# Altium footprint library Devre_2_Proje.PcbLib: 8 footprints
Each footprint in its own frame and in the unit in brackets; x right, y up, seen from the top. Pads: shape width x height; smd on the part's side, far side on the other; paste and mask are expansions set on the pad; w line width, h text height; cw(c..) or ccw(c..) is an arc to the next point about the centre after c.
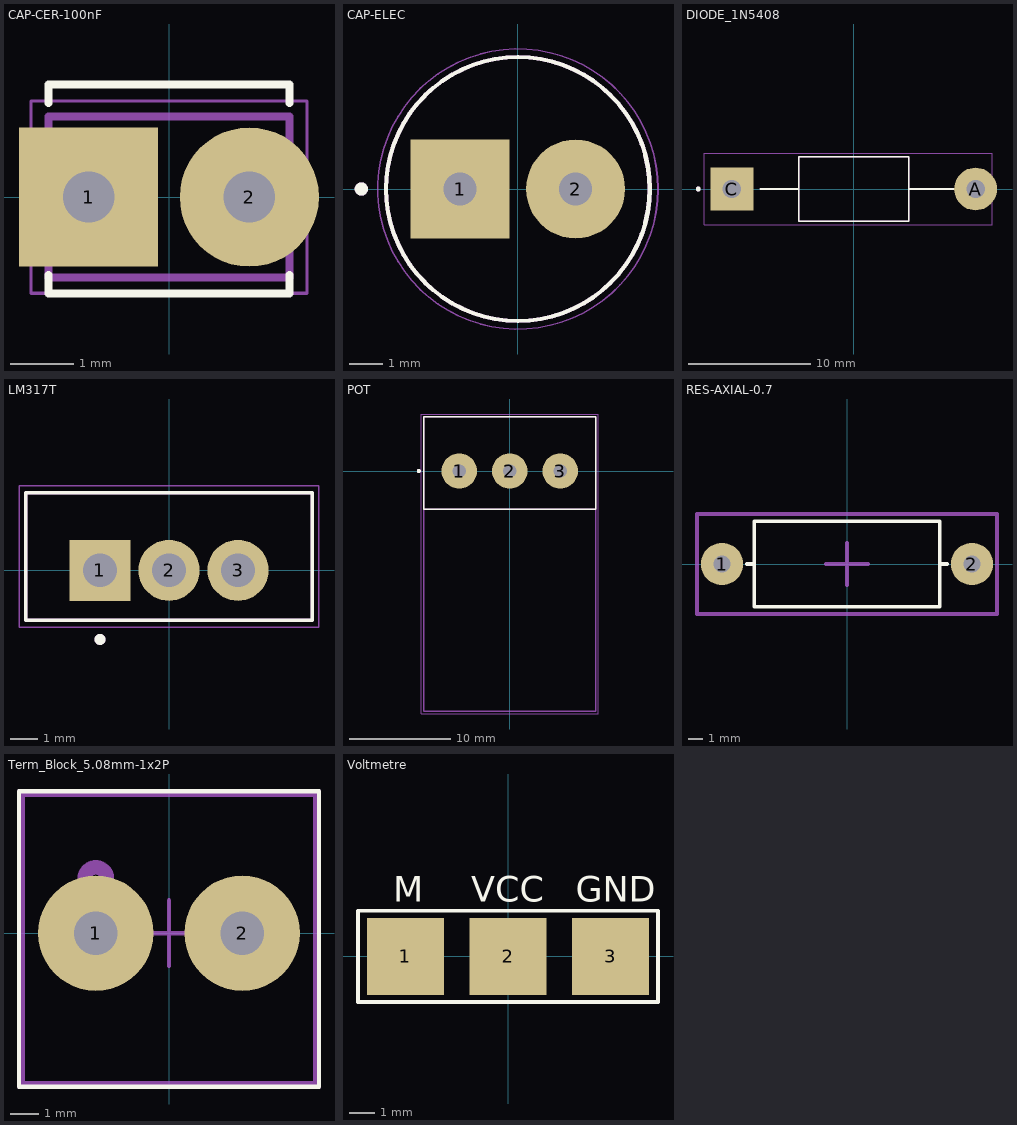
[diagram p0: the footprints below, top view; thin cyan lines are the x and y axes]

## CAP-CER-100nF [mm]
height 4.66
pads (2):
  rect 2.2x2.2 / inner round 1.318 / far side rect 1.318x1.318 hole 0.81: 1(-1.27,0)
  round 2.2 hole 0.81: 2(1.27,0)
Top Overlay:
  lines w0.127: -1.905,-1.233 -1.905,-1.524 1.905,-1.524 1.905,-1.233 ; -1.905,1.487 -1.905,1.778 1.905,1.778 1.905,1.487
Top Designator:
  lines w0.127: -1.905,-1.27 -1.905,1.27 1.905,1.27 1.905,-1.27 -1.905,-1.27
Top Component Center:
  lines w0.05: -2.179,-1.52 -2.179,1.52 2.179,1.52 2.179,-1.52 -2.179,-1.52
3D body "step_temp.STEP": height 4.66, standoff -7, extent -1.905,-1.27 1.905,1.27

## CAP-ELEC [mm]
pads (2):
  rect 3x3 / inner round 3 / far side rect 3x3 hole 1: 1(-1.75,0)
  round 3 hole 1: 2(1.75,0)
Top Overlay:
  circle w0.127: c0,0 r4
  circle w0.2: c-4.75,0 r0.1
Top Designator:
  circle w0.127: c0,0 r4
  circle w0.2: c-4.75,0 r0.1
Top Component Center:
  circle w0.05: c0,0 r4.25
3D body "Aluminum_electrolytic_capacitor_radial_D8_H11.5_PinD0.6_Pitch3.5_nominal_black.step": height 11.5, standoff -3, extent -4,-3.992 3.991,3.992

## DIODE_1N5408 [mm]
height 5.6
pads (2):
  round 3.5 hole 1.5 mask+0.102: A(9.95,0)
  rect 3.5x3.5 / inner round 3.5 / far side rect 3.5x3.5 hole 1.5 mask+0.102: C(-9.95,0)
Top Overlay:
  circle w0.2: c-12.7,0 r0.1
  lines w0.127: 8.47,0 4.5,0 ; 4.5,0 4.5,-2.65 -4.5,-2.65 -4.5,0 -4.5,2.65 4.5,2.65 4.5,0
  lines w0.15: -7.62,0 -4.5,0
Top Designator:
  circle w0.2: c-12.7,0 r0.1
  lines w0.127: -7.62,0 -4.5,0 ; 9.95,0 4.5,0 ; -4.5,0 -4.5,2.65 4.5,2.65 4.5,0 ; -4.5,0 -4.5,-2.65 4.5,-2.65 4.5,0
Top Component Center:
  lines w0.05: -12.192,-2.9 -12.192,2.9 11.325,2.9 11.325,-2.9 -12.192,-2.9
3D body "Power Diode 1N5400.step": height 6, standoff -2, extent -8.658,-2.459 8.658,2.541

## LM317T [mm]
pads (3):
  rect 2.25x2.25 / inner round 2.25 / far side round 2.25 hole 1.24: 1(-2.54,0)
  round 2.25 hole 1.24: 2(0,0) 3(2.54,0)
Top Overlay:
  circle w0.2: c-2.54,-2.54 r0.1
  lines w0.127: -5.27,-1.84 5.27,-1.84 5.27,2.86 -5.27,2.86 -5.27,-1.84
Top Designator:
  circle w0.2: c-2.54,-2.54 r0.1
  lines w0.127: -5.27,-1.84 5.27,-1.84 5.27,2.86 -5.27,2.86 -5.27,-1.84
Top Component Center:
  lines w0.05: -5.52,-2.09 5.52,-2.09 5.52,3.11 -5.52,3.11 -5.52,-2.09
3D body "step_temp.STEP": height 20.4, standoff -9.94, extent -5.08,-1.81 5.08,2.54

## POT [mm]
height 21
pads (3):
  round 3.5 hole 1.3 mask+0.102: 1(-5,0) 2(0,0) 3(5,0)
Top Overlay:
  circle w0.2: c-9,0 r0.1
  lines w0.127: -8.5,-3.8 8.5,-3.8 8.5,5.4 -8.5,5.4 -8.5,-3.8
Top Designator:
  circle w0.2: c-9,0 r0.1
  lines w0.127: -8.5,-3.8 8.5,-3.8 ; -8.5,-3.8 -8.5,5.4 8.5,5.4 8.5,-3.8 ; -8.5,-3.8 -8.5,-23.8 8.5,-23.8 8.5,-3.8
Top Component Center:
  lines w0.05: -8.75,-24.05 -8.75,5.65 8.75,5.65 8.75,-24.05 -8.75,-24.05
3D body "step_temp.STEP": height 21, standoff -4, extent -8.5,-23.8 8.486,5.4

## RES-AXIAL-0.7 [mm]
pads (2):
  round 3 hole 1.2 mask+0.08: 1(-8.89,0) 2(8.89,0)
Top Overlay:
  lines w0.25: -7.112,0 -6.604,0 ; 6.604,0 7.112,0 ; -6.604,-3.048 6.604,-3.048 6.604,3.048 -6.604,3.048 -6.604,-0.127 -6.604,-3.048
Top Designator:
  lines w0.25: -10.668,-3.556 10.668,-3.556 10.668,3.556 -5.08,3.556 -10.668,3.556 -10.668,-3.556
Top Component Center:
  lines w0.25: -1.524,0 0,0 ; 0,-1.524 0,0 ; 0,1.524 0,0 ; 1.524,0 0,0 ; -10.668,-3.556 10.668,-3.556 10.668,3.556 -5.08,3.556 -10.668,3.556 -10.668,-3.556
3D body "RES-AXIAL-7.STEP": height 5.25, standoff -6, extent -8.85,-2.747 8.85,2.747

## Term_Block_5.08mm-1x2P [mm]
pads (2):
  round 4 hole 1.5: 1(-2.54,0) 2(2.54,0)
Top Overlay:
  lines w0.152: -5.207,-5.334 -5.207,4.928 5.207,4.928 5.207,-5.334 -5.207,-5.334
Top Designator:
  lines w0.152: -5.08,-5.207 -5.08,4.801 5.08,4.801 5.08,-5.207 -5.08,-5.207
  lines w0.508: -2.921,1.905 cw(c-2.54,1.905) -2.159,1.905 cw(c-2.54,1.905) -2.921,1.905
  text ".Designator" at 0.936,-3.254 h2
Top Component Center:
  lines w0.15: -1.143,0 0,0 ; 0,-1.143 0,0 ; 0,1.143 0,0 ; 1.143,0 0,0
  lines w0.152: -5.207,-5.334 -5.207,4.928 5.207,4.928 5.207,-5.334 -5.207,-5.334
3D body "395443002.stp": height 14.48, standoff -3.05, extent -5.08,-5.08 5.08,4.826

## Voltmetre [mm]
pads (3):
  rect 3x3 smd mask+0.08: 1(-4,0) 2(0,0) 3(4,0)
Top Overlay:
  lines w0.15: -5.842,-1.778 5.842,-1.778 5.842,1.778 -5.842,1.778 -5.842,0.762 -5.842,-1.778
  text "GND" at 2.64,2.132 h1
  text "VCC" at -1.424,2.132 h1
  text "M" at -4.472,2.132 h1